# Altium footprint library Footprints.PcbLib: 22 footprints (part 1 of 2)
Each footprint in its own frame and in the unit in brackets; x right, y up, seen from the top. Pads: shape width x height; smd on the part's side, far side on the other; paste and mask are expansions set on the pad; w line width, h text height; cw(c..) or ccw(c..) is an arc to the next point about the centre after c.
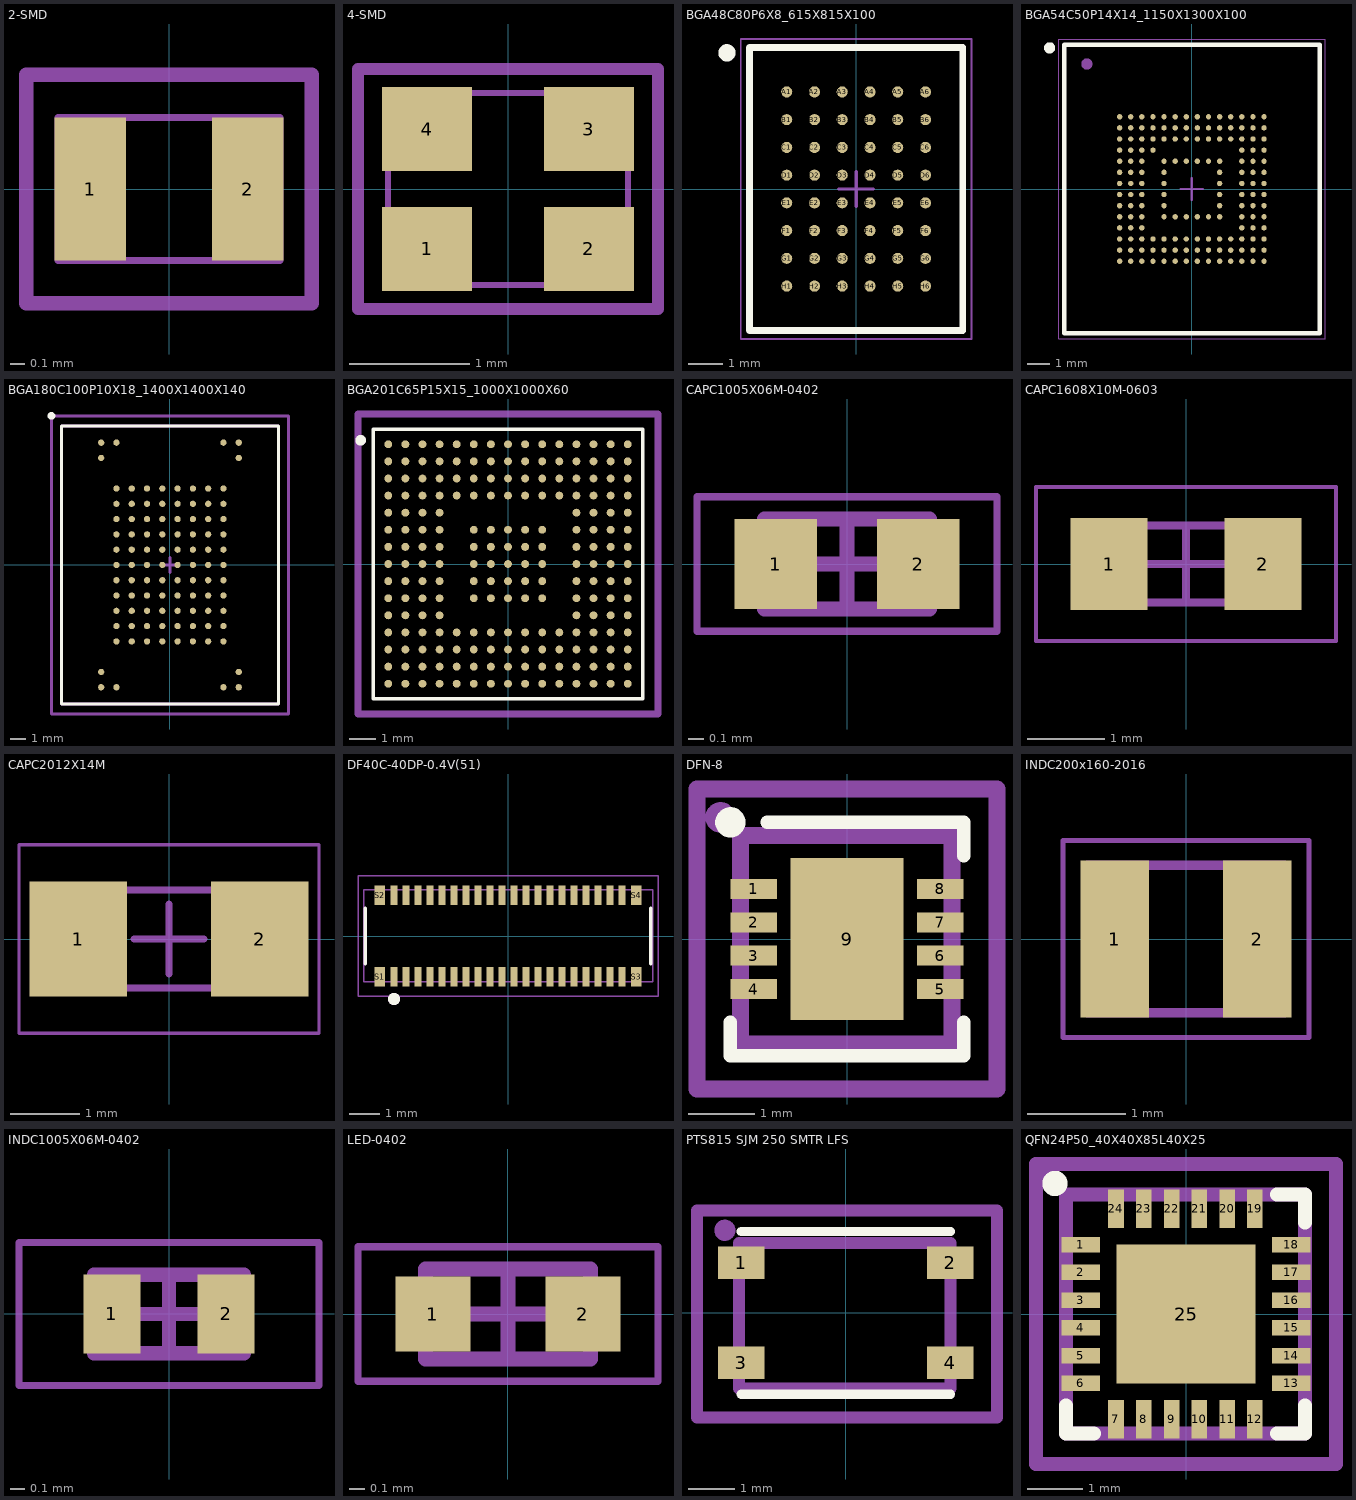
[diagram p0: the footprints below, top view; thin cyan lines are the x and y axes]

## 2-SMD [mm]
pads (2):
  rect 0.5x1 smd mask+0.1: 1(-0.55,0) 2(0.55,0)
Top Courtyard (Mech14):
  lines w0.1: -1,-0.8 -1,0.8 1,0.8 1,-0.8 -1,-0.8
Top Assembly:
  lines w0.05: -0.775,-0.5 -0.775,0.5 0.775,0.5 0.775,-0.5 -0.775,-0.5
  text ".Designator" at -0.775,-0.1 h0.4
3D body "ECS-.327-12.5-16-TR--3DModel-STEP-1.STEP": height 0.51, standoff 0.01, extent -0.8,-0.5 0.8,0.5

## 4-SMD [mm]
pads (4):
  rect 0.75x0.7 smd mask+0.05: 1(-0.675,-0.5) 2(0.675,-0.5) 3(0.675,0.5) 4(-0.675,0.5)
Top Courtyard (Mech14):
  lines w0.1: -1.25,-1 1.25,-1 1.25,1 -1.25,1 -1.25,-1
Top Assembly:
  lines w0.05: -1,-0.8 1,-0.8 1,0.8 -1,0.8 -1,-0.8
  text ".Designator" at -0.725,-0.1 h0.4
3D body "XRCGB25M000F3M00R0.step": height 0.71, standoff 0.01, extent -1,-0.8 1,0.8

## BGA48C80P6X8_615X815X100 [mm] "BGA, 48-Leads, Body 6.15x8.15mmx1.00mm, Pitch 0.80mm"
height 1
pads (48):
  round 0.32 smd: A1(-2,2.8) A2(-1.2,2.8) A3(-0.4,2.8) A4(0.4,2.8) A5(1.2,2.8) A6(2,2.8) B1(-2,2) B2(-1.2,2) B3(-0.4,2) B4(0.4,2) B5(1.2,2) B6(2,2) C1(-2,1.2) C2(-1.2,1.2) C3(-0.4,1.2) C4(0.4,1.2) C5(1.2,1.2) C6(2,1.2) D1(-2,0.4) D2(-1.2,0.4) D3(-0.4,0.4) D4(0.4,0.4) D5(1.2,0.4) D6(2,0.4) E1(-2,-0.4) E2(-1.2,-0.4) E3(-0.4,-0.4) E4(0.4,-0.4) E5(1.2,-0.4) E6(2,-0.4) F1(-2,-1.2) F2(-1.2,-1.2) F3(-0.4,-1.2) F4(0.4,-1.2) F5(1.2,-1.2) F6(2,-1.2) G1(-2,-2) G2(-1.2,-2) G3(-0.4,-2) G4(0.4,-2) G5(1.2,-2) G6(2,-2) H1(-2,-2.8) H2(-1.2,-2.8) H3(-0.4,-2.8) H4(0.4,-2.8) H5(1.2,-2.8) H6(2,-2.8)
Top Overlay:
  circle w0.25: c-3.725,3.925 r0.125
  lines w0.2: -3.075,-4.075 3.075,-4.075 3.075,4.075 -3.075,4.075 -3.075,-4.075
Top Courtyard (Mech14):
  lines w0.05: -3.325,-4.325 3.325,-4.325 3.325,4.325 -3.325,4.325 -3.325,-4.325
  lines w0.1: -0.5,0 0.5,0 ; 0,-0.5 0,0.5
Top Assembly:
  lines w0.1: -3.075,-4.075 3.075,-4.075 3.075,4.075 -3.075,4.075 -3.075,-4.075
  text ".Designator" at -2.25,-0.187 h1
3D body "BGA-48_VBK048_SPA.step": height 0.99, standoff 0, extent -3.073,-4.077 3.073,4.077

## BGA54C50P14X14_1150X1300X100 [mm] "BGA, 54-Leads, Body 11.50x13.00mmx1.00mm, Pitch 0.50mm"
height 1
pads (153):
  round 0.24 smd mask+0.036: A1(-3.25,3.25) A2(-2.75,3.25) A3(-2.25,3.25) A4(-1.75,3.25) A5(-1.25,3.25) A6(-0.75,3.25) A7(-0.25,3.25) A8(0.25,3.25) A9(0.75,3.25) A10(1.25,3.25) A11(1.75,3.25) A12(2.25,3.25) A13(2.75,3.25) A14(3.25,3.25) B1(-3.25,2.75) B2(-2.75,2.75) B3(-2.25,2.75) B4(-1.75,2.75) B5(-1.25,2.75) B6(-0.75,2.75) B7(-0.25,2.75) B8(0.25,2.75) B9(0.75,2.75) B10(1.25,2.75) B11(1.75,2.75) B12(2.25,2.75) B13(2.75,2.75) B14(3.25,2.75) C1(-3.25,2.25) C2(-2.75,2.25) C3(-2.25,2.25) C4(-1.75,2.25) C5(-1.25,2.25) C6(-0.75,2.25) C7(-0.25,2.25) C8(0.25,2.25) C9(0.75,2.25) C10(1.25,2.25) C11(1.75,2.25) C12(2.25,2.25) C13(2.75,2.25) C14(3.25,2.25) D1(-3.25,1.75) D2(-2.75,1.75) D3(-2.25,1.75) D4(-1.75,1.75) D12(2.25,1.75) D13(2.75,1.75) D14(3.25,1.75) E1(-3.25,1.25) E2(-2.75,1.25) E3(-2.25,1.25) E5(-1.25,1.25) E6(-0.75,1.25) E7(-0.25,1.25) E8(0.25,1.25) E9(0.75,1.25) E10(1.25,1.25) E12(2.25,1.25) E13(2.75,1.25) E14(3.25,1.25) F1(-3.25,0.75) F2(-2.75,0.75) F3(-2.25,0.75) F5(-1.25,0.75) F10(1.25,0.75) F12(2.25,0.75) F13(2.75,0.75) F14(3.25,0.75) G1(-3.25,0.25) G2(-2.75,0.25) G3(-2.25,0.25) G5(-1.25,0.25) G10(1.25,0.25) G12(2.25,0.25) G13(2.75,0.25) G14(3.25,0.25) H1(-3.25,-0.25) H2(-2.75,-0.25) H3(-2.25,-0.25) H5(-1.25,-0.25) H10(1.25,-0.25) H12(2.25,-0.25) H13(2.75,-0.25) H14(3.25,-0.25) J1(-3.25,-0.75) J2(-2.75,-0.75) J3(-2.25,-0.75) J5(-1.25,-0.75) J10(1.25,-0.75) J12(2.25,-0.75) J13(2.75,-0.75) J14(3.25,-0.75) K1(-3.25,-1.25) K2(-2.75,-1.25) K3(-2.25,-1.25) K5(-1.25,-1.25) K6(-0.75,-1.25) K7(-0.25,-1.25) K8(0.25,-1.25) K9(0.75,-1.25) K10(1.25,-1.25) K12(2.25,-1.25) K13(2.75,-1.25) K14(3.25,-1.25) L1(-3.25,-1.75) L2(-2.75,-1.75) L3(-2.25,-1.75) L12(2.25,-1.75) L13(2.75,-1.75) L14(3.25,-1.75) M1(-3.25,-2.25) M2(-2.75,-2.25) M3(-2.25,-2.25) M4(-1.75,-2.25) M5(-1.25,-2.25) M6(-0.75,-2.25) M7(-0.25,-2.25) M8(0.25,-2.25) M9(0.75,-2.25) M10(1.25,-2.25) M11(1.75,-2.25) M12(2.25,-2.25) M13(2.75,-2.25) M14(3.25,-2.25) N1(-3.25,-2.75) N2(-2.75,-2.75) N3(-2.25,-2.75) N4(-1.75,-2.75) N5(-1.25,-2.75) N6(-0.75,-2.75) N7(-0.25,-2.75) N8(0.25,-2.75) N9(0.75,-2.75) N10(1.25,-2.75) N11(1.75,-2.75) N12(2.25,-2.75) N13(2.75,-2.75) N14(3.25,-2.75) P1(-3.25,-3.25) P2(-2.75,-3.25) P3(-2.25,-3.25) P4(-1.75,-3.25) P5(-1.25,-3.25) P6(-0.75,-3.25) P7(-0.25,-3.25) P8(0.25,-3.25) P9(0.75,-3.25) P10(1.25,-3.25) P11(1.75,-3.25) P12(2.25,-3.25) P13(2.75,-3.25) P14(3.25,-3.25)
Top Overlay:
  circle w0.25: c-6.4,6.35 r0.125
  lines w0.2: -5.75,-6.5 -5.75,6.5 5.75,6.5 5.75,-6.5 -5.75,-6.5
Top Courtyard (Mech14):
  lines w0.05: -6,-6.75 -6,6.75 6,6.75 6,-6.75 -6,-6.75
  lines w0.1: -0.5,0 0.5,0 ; 0,-0.5 0,0.5
Top Assembly:
  circle w0.25: c-4.725,5.625 r0.125
  lines w0.1: -5.75,-6.5 -5.75,6.5 5.75,6.5 5.75,-6.5 -5.75,-6.5
  text ".Designator" at -3.525,-0.289 h1.52
3D body "BGA153_115X130X10_ALL.step": height 0.99, standoff 0, extent -5.804,-6.553 5.804,6.553

## BGA180C100P10X18_1400X1400X140 [mm] "BGA, 180-Leads, Body 14.00x14.00mmx1.40mm, Pitch 1.00mm"
height 1.4
pads (100):
  round 0.41 smd: A1(-4.5,8) A2(-3.5,8) A9(3.5,8) A10(4.5,8) B1(-4.5,7) B10(4.5,7) D2(-3.5,5) D3(-2.5,5) D4(-1.5,5) D5(-0.5,5) D6(0.5,5) D7(1.5,5) D8(2.5,5) D9(3.5,5) E2(-3.5,4) E3(-2.5,4) E4(-1.5,4) E5(-0.5,4) E6(0.5,4) E7(1.5,4) E8(2.5,4) E9(3.5,4) F2(-3.5,3) F3(-2.5,3) F4(-1.5,3) F5(-0.5,3) F6(0.5,3) F7(1.5,3) F8(2.5,3) F9(3.5,3) G2(-3.5,2) G3(-2.5,2) G4(-1.5,2) G5(-0.5,2) G6(0.5,2) G7(1.5,2) G8(2.5,2) G9(3.5,2) H2(-3.5,1) H3(-2.5,1) H4(-1.5,1) H5(-0.5,1) H6(0.5,1) H7(1.5,1) H8(2.5,1) H9(3.5,1) J2(-3.5,0) J3(-2.5,0) J4(-1.5,0) J5(-0.5,0) J6(0.5,0) J7(1.5,0) J8(2.5,0) J9(3.5,0) K2(-3.5,-1) K3(-2.5,-1) K4(-1.5,-1) K5(-0.5,-1) K6(0.5,-1) K7(1.5,-1) K8(2.5,-1) K9(3.5,-1) L2(-3.5,-2) L3(-2.5,-2) L4(-1.5,-2) L5(-0.5,-2) L6(0.5,-2) L7(1.5,-2) L8(2.5,-2) L9(3.5,-2) M2(-3.5,-3) M3(-2.5,-3) M4(-1.5,-3) M5(-0.5,-3) M6(0.5,-3) M7(1.5,-3) M8(2.5,-3) M9(3.5,-3) N2(-3.5,-4) N3(-2.5,-4) N4(-1.5,-4) N5(-0.5,-4) N6(0.5,-4) N7(1.5,-4) N8(2.5,-4) N9(3.5,-4) P2(-3.5,-5) P3(-2.5,-5) P4(-1.5,-5) P5(-0.5,-5) P6(0.5,-5) P7(1.5,-5) P8(2.5,-5) P9(3.5,-5) T1(-4.5,-7) T10(4.5,-7) U1(-4.5,-8) U2(-3.5,-8) U9(3.5,-8) U10(4.5,-8)
Top Overlay:
  circle w0.25: c-7.75,9.75 r0.125
  lines w0.2: -7.1,-9.1 -7.1,9.1 7.1,9.1 7.1,-9.1 -7.1,-9.1
Top Courtyard (Mech14):
  lines w0.2: -0.5,0 0.5,0 ; 0,-0.5 0,0.5 ; -7.75,-9.75 -7.75,9.75 7.75,9.75 7.75,-9.75 -7.75,-9.75
Top Assembly:
  lines w0.2: -7.1,-9.1 7.1,-9.1 7.1,9.1 -7.1,9.1 -7.1,-9.1
  text ".Designator" at -3.75,-0.4 h2
3D body "BGA_IS21ES08G-JQLI_ISI.step": height 1.4, standoff 0, extent -7.048,-9.055 7.048,9.055

## BGA201C65P15X15_1000X1000X60 [mm]
pads (201):
  round 0.3 smd mask+0.045: A1(-4.55,4.55) A2(-3.9,4.55) A3(-3.25,4.55) A4(-2.6,4.55) A5(-1.95,4.55) A6(-1.3,4.55) A7(-0.65,4.55) A8(0,4.55) A9(0.65,4.55) A10(1.3,4.55) A11(1.95,4.55) A12(2.6,4.55) A13(3.25,4.55) A14(3.9,4.55) A15(4.55,4.55) B1(-4.55,3.9) B2(-3.9,3.9) B3(-3.25,3.9) B4(-2.6,3.9) B5(-1.95,3.9) B6(-1.3,3.9) B7(-0.65,3.9) B8(0,3.9) B9(0.65,3.9) B10(1.3,3.9) B11(1.95,3.9) B12(2.6,3.9) B13(3.25,3.9) B14(3.9,3.9) B15(4.55,3.9) C1(-4.55,3.25) C2(-3.9,3.25) C3(-3.25,3.25) C4(-2.6,3.25) C5(-1.95,3.25) C6(-1.3,3.25) C7(-0.65,3.25) C8(0,3.25) C9(0.65,3.25) C10(1.3,3.25) C11(1.95,3.25) C12(2.6,3.25) C13(3.25,3.25) C14(3.9,3.25) C15(4.55,3.25) D1(-4.55,2.6) D2(-3.9,2.6) D3(-3.25,2.6) D4(-2.6,2.6) D5(-1.95,2.6) D6(-1.3,2.6) D7(-0.65,2.6) D8(0,2.6) D9(0.65,2.6) D10(1.3,2.6) D11(1.95,2.6) D12(2.6,2.6) D13(3.25,2.6) D14(3.9,2.6) D15(4.55,2.6) E1(-4.55,1.95) E2(-3.9,1.95) E3(-3.25,1.95) E4(-2.6,1.95) E12(2.6,1.95) E13(3.25,1.95) E14(3.9,1.95) E15(4.55,1.95) F1(-4.55,1.3) F2(-3.9,1.3) F3(-3.25,1.3) F4(-2.6,1.3) F6(-1.3,1.3) F7(-0.65,1.3) F8(0,1.3) F9(0.65,1.3) F10(1.3,1.3) F12(2.6,1.3) F13(3.25,1.3) F14(3.9,1.3) F15(4.55,1.3) G1(-4.55,0.65) G2(-3.9,0.65) G3(-3.25,0.65) G4(-2.6,0.65) G6(-1.3,0.65) G7(-0.65,0.65) G8(0,0.65) G9(0.65,0.65) G10(1.3,0.65) G12(2.6,0.65) G13(3.25,0.65) G14(3.9,0.65) G15(4.55,0.65) H1(-4.55,0) H2(-3.9,0) H3(-3.25,0) H4(-2.6,0) H6(-1.3,0) H7(-0.65,0) H8(0,0) H9(0.65,0) H10(1.3,0) H12(2.6,0) H13(3.25,0) H14(3.9,0) H15(4.55,0) J1(-4.55,-0.65) J2(-3.9,-0.65) J3(-3.25,-0.65) J4(-2.6,-0.65) J6(-1.3,-0.65) J7(-0.65,-0.65) J8(0,-0.65) J9(0.65,-0.65) J10(1.3,-0.65) J12(2.6,-0.65) J13(3.25,-0.65) J14(3.9,-0.65) J15(4.55,-0.65) K1(-4.55,-1.3) K2(-3.9,-1.3) K3(-3.25,-1.3) K4(-2.6,-1.3) K6(-1.3,-1.3) K7(-0.65,-1.3) K8(0,-1.3) K9(0.65,-1.3) K10(1.3,-1.3) K12(2.6,-1.3) K13(3.25,-1.3) K14(3.9,-1.3) K15(4.55,-1.3) L1(-4.55,-1.95) L2(-3.9,-1.95) L3(-3.25,-1.95) L4(-2.6,-1.95) L12(2.6,-1.95) L13(3.25,-1.95) L14(3.9,-1.95) L15(4.55,-1.95) M1(-4.55,-2.6) M2(-3.9,-2.6) M3(-3.25,-2.6) M4(-2.6,-2.6) M5(-1.95,-2.6) M6(-1.3,-2.6) M7(-0.65,-2.6) M8(0,-2.6) M9(0.65,-2.6) M10(1.3,-2.6) M11(1.95,-2.6) M12(2.6,-2.6) M13(3.25,-2.6) M14(3.9,-2.6) M15(4.55,-2.6) N1(-4.55,-3.25) N2(-3.9,-3.25) N3(-3.25,-3.25) N4(-2.6,-3.25) N5(-1.95,-3.25) N6(-1.3,-3.25) N7(-0.65,-3.25) N8(0,-3.25) N9(0.65,-3.25) N10(1.3,-3.25) N11(1.95,-3.25) N12(2.6,-3.25) N13(3.25,-3.25) N14(3.9,-3.25) N15(4.55,-3.25) P1(-4.55,-3.9) P2(-3.9,-3.9) P3(-3.25,-3.9) P4(-2.6,-3.9) P5(-1.95,-3.9) P6(-1.3,-3.9) P7(-0.65,-3.9) P8(0,-3.9) P9(0.65,-3.9) P10(1.3,-3.9) P11(1.95,-3.9) P12(2.6,-3.9) P13(3.25,-3.9) P14(3.9,-3.9) P15(4.55,-3.9) R1(-4.55,-4.55) R2(-3.9,-4.55) R3(-3.25,-4.55) R4(-2.6,-4.55) R5(-1.95,-4.55) R6(-1.3,-4.55) R7(-0.65,-4.55) R8(0,-4.55) R9(0.65,-4.55) R10(1.3,-4.55) R11(1.95,-4.55) R12(2.6,-4.55) R13(3.25,-4.55) R14(3.9,-4.55) R15(4.55,-4.55)
Top Overlay:
  circle w0.2: c-5.6,4.7 r0.1
  lines w0.127: -5.125,-5.125 -5.125,5.125 5.125,5.125 5.125,-5.125 -5.125,-5.125
Top Courtyard (Mech14):
  lines w0.254: -5.7,-5.7 5.7,-5.7 5.7,5.7 -5.7,5.7 -5.7,-5.7
Top Assembly:
  circle w0.2: c-5.6,4.7 r0.1
  lines w0.05: -5.1,-5.1 -5.1,5.1 5.1,5.1 5.1,-5.1 -5.1,-5.1
  text ".Designator" at -3.7,-0.4 h2
3D body "step_temp.STEP": height 0.59, standoff -0.01, extent -5,-5 5,5
3D body: height 0.6, standoff 0.2, extent -4.1,3.7 -3.7,4.1

## CAPC1005X06M-0402 [mm] "Chip Capacitor, 2-Leads, Body 1.00x0.50mm, IPC Low Density"
height 0.6
pads (2):
  rect 0.55x0.6 smd: 1(-0.475,0) 2(0.475,0)
Top Courtyard (Mech14):
  lines w0.05: -1,-0.45 -1,0.45 1,0.45 1,-0.45 -1,-0.45
  lines w0.1: -0.3,0 0.3,0 ; 0,-0.3 0,0.3
Top Assembly:
  lines w0.1: -0.55,-0.3 -0.55,0.3 0.55,0.3 0.55,-0.3 -0.55,-0.3
  text ".Designator" at -0.775,-0.1 h0.4
3D body: height 0.6, standoff 0, extent -0.3,-0.3 0.3,0.3
3D body: height 0.6, standoff 0, extent -0.55,-0.3 -0.3,0.3
3D body: height 0.6, standoff 0, extent 0.3,-0.3 0.55,0.3

## CAPC1608X10M-0603 [mm] "Chip Capacitor, 2-Leads, Body 1.60x0.80mm, IPC Low Density"
height 1
pads (2):
  rect 1x1.2 smd: 1(-1,0) 2(1,0)
Top Courtyard (Mech14):
  lines w0.05: -1.95,-1 1.95,-1 1.95,1 -1.95,1 -1.95,-1
  lines w0.1: -0.5,0 0.5,0 ; 0,-0.5 0,0.5
Top Assembly:
  lines w0.1: -0.9,-0.5 0.9,-0.5 0.9,0.5 -0.9,0.5 -0.9,-0.5
  text ".Designator" at -0.775,-0.1 h0.4
3D body: height 1, standoff 0, extent 0.52,-0.5 0.9,0.5
3D body: height 1, standoff 0, extent -0.9,-0.5 -0.52,0.5
3D body: height 1, standoff 0, extent -0.52,-0.5 0.52,0.5

## CAPC2012X14M [mm] "Chip Capacitor, 2-Leads, Body 2.00x1.25mm, IPC Low Density"
height 1.4
pads (2):
  rect 1.4x1.65 smd: 1(-1.3,0) 2(1.3,0)
Top Courtyard (Mech14):
  lines w0.05: -2.15,-1.35 -2.15,1.35 2.15,1.35 2.15,-1.35 -2.15,-1.35
  lines w0.1: -0.5,0 0.5,0 ; 0,-0.5 0,0.5
Top Assembly:
  lines w0.1: -1.075,-0.7 -1.075,0.7 1.075,0.7 1.075,-0.7 -1.075,-0.7
  text ".Designator" at -0.775,-0.1 h0.4
3D body: height 1.4, standoff 0, extent -0.625,-0.7 0.625,0.7
3D body: height 1.4, standoff 0, extent -1.075,-0.7 -0.625,0.7
3D body: height 1.4, standoff 0, extent 0.625,-0.7 1.075,0.7

## DF40C-40DP-0.4V(51) [mm]
pads (44):
  rect 0.23x0.66 smd: 1(-3.8,-1.355) 2(-3.8,1.355) 3(-3.4,-1.355) 4(-3.4,1.355) 5(-3,-1.355) 6(-3,1.355) 7(-2.6,-1.355) 8(-2.6,1.355) 9(-2.2,-1.355) 10(-2.2,1.355) 11(-1.8,-1.355) 12(-1.8,1.355) 13(-1.4,-1.355) 14(-1.4,1.355) 15(-1,-1.355) 16(-1,1.355) 17(-0.6,-1.355) 18(-0.6,1.355) 19(-0.2,-1.355) 20(-0.2,1.355) 21(0.2,-1.355) 22(0.2,1.355) 23(0.6,-1.355) 24(0.6,1.355) 25(1,-1.355) 26(1,1.355) 27(1.4,-1.355) 28(1.4,1.355) 29(1.8,-1.355) 30(1.8,1.355) 31(2.2,-1.355) 32(2.2,1.355) 33(2.6,-1.355) 34(2.6,1.355) 35(3,-1.355) 36(3,1.355) 37(3.4,-1.355) 38(3.4,1.355) 39(3.8,-1.355) 40(3.8,1.355)
  rect 0.35x0.66 smd: S1(-4.275,-1.355) S2(-4.275,1.355) S3(4.275,-1.355) S4(4.275,1.355)
Top Overlay:
  circle w0.2: c-3.8,-2.1 r0.1
  lines w0.127: -4.76,-0.925 -4.76,0.925 ; 4.76,-0.925 4.76,0.925
Top Courtyard (Mech14):
  lines w0.05: -5,-2 -5,1.25 -5,2 5,2 5,-2 -5,-2
Top Assembly:
  circle w0.2: c-3.8,-2.1 r0.1
  lines w0.05: -4.8,-1.525 -4.8,1.55 4.825,1.55 4.825,-1.525 -4.8,-1.525
  text ".Designator" at -2.25,-0.062 h1
3D body "DF40C-40DP.stp": height 1.15, standoff 0.01, extent -4.76,-1.47 4.76,1.5

## DFN-8 [mm]
pads (9):
  rect 0.7x0.3 smd: 1(-1.4,0.75) 2(-1.4,0.25) 3(-1.4,-0.25) 4(-1.4,-0.75) 5(1.4,-0.75) 6(1.4,-0.25) 7(1.4,0.25) 8(1.4,0.75)
  rect 1.7x2.43 smd paste-2539.97: 9(0,0)
Top Overlay:
  circle w0.254: c-1.75,1.75 r0.1
  lines w0.2: -1.75,-1.25 -1.75,-1.75 1.75,-1.75 1.75,-1.25 ; -1.2,1.75 1.75,1.75 1.75,1.25
Top Paste:
  rectangle: 0.05,0.05 0.775,1.15
  region: -0.05,-0.05 -0.775,-0.05 -0.775,-1.15 -0.05,-1.15
  rectangle: 0.05,-1.15 0.775,-0.05
  region: -0.05,1.15 -0.775,1.15 -0.775,0.05 -0.05,0.05
Top Courtyard (Mech14):
  lines w0.254: -2.25,-2.25 -2.25,2.25 2.25,2.25 2.25,-2.25 -2.25,-2.25
Top Assembly:
  circle w0.254: c-1.9,1.825 r0.1
  lines w0.254: -1.6,-1.575 -1.6,1.55 1.575,1.55 1.575,-1.575 -1.6,-1.575
  text ".Designator" at -1.45,-0.175 h0.75
3D body "User Library-My-DFN-8-3x3-0_5.STEP": height 0.81, standoff 0.01, extent -1.56,-1.55 1.56,1.55

## INDC200x160-2016 [mm]
height 0.55
pads (2):
  rect 0.7x1.6 smd: 1(-0.725,0) 2(0.725,0)
Top Courtyard (Mech14):
  lines w0.05: -1.25,-1 -1.25,1 1.25,1 1.25,-1 -1.25,-1
Top Assembly:
  lines w0.1: -1,-0.75 -1,0.75 1,0.75 1,-0.75 -1,-0.75
  text ".Designator" at -0.675,-0.069 h0.3
3D body: height 1, standoff 0, extent -0.5,-0.8 0.5,0.8
3D body: height 1, standoff 0, extent -1,-0.8 -0.5,0.8
3D body: height 1, standoff 0, extent 0.5,-0.8 1,0.8

## INDC1005X06M-0402 [mm] "Chip Inductor, 2-Leads, Body 1.00x0.50mm, IPC Low Density"
height 0.55
pads (2):
  rect 0.4x0.55 smd: 1(-0.4,0) 2(0.4,0)
Top Courtyard (Mech14):
  lines w0.05: -1.05,-0.5 1.05,-0.5 1.05,0.5 -1.05,0.5 -1.05,-0.5
  lines w0.1: -0.275,0 0.275,0 ; 0,-0.275 0,0.275
Top Assembly:
  lines w0.1: -0.525,-0.275 0.525,-0.275 0.525,0.275 -0.525,0.275 -0.525,-0.275
  text ".Designator" at -0.775,-0.1 h0.4
3D body: height 0.55, standoff 0, extent 0.275,-0.275 0.525,0.275
3D body: height 0.55, standoff 0, extent -0.525,-0.275 -0.275,0.275
3D body: height 0.55, standoff 0, extent -0.275,-0.275 0.275,0.275

## LED-0402 [mm]
height 0.6
pads (2):
  rect 0.5x0.5 smd: 1(-0.5,0) 2(0.5,0)
Top Courtyard (Mech14):
  lines w0.05: -1,-0.45 1,-0.45 1,0.45 -1,0.45 -1,-0.45
  lines w0.1: -0.3,0 0.3,0 ; 0,-0.3 0,0.3
Top Assembly:
  lines w0.1: -0.55,-0.3 0.55,-0.3 0.55,0.3 -0.55,0.3 -0.55,-0.3
  text ".Designator" at -0.775,-0.1 h0.4
3D body "QBLP595.step": height 0.5, standoff 0, extent -0.521,-0.25 0.479,0.25

## PTS815 SJM 250 SMTR LFS [mm]
pads (4):
  rect 1x0.7 smd paste-2539.97: 1(-2.25,1.075) 2(2.25,1.075) 3(-2.25,-1.075) 4(2.25,-1.075)
Top Overlay:
  lines w0.2: -2.25,-1.75 2.25,-1.75 ; -2.25,1.75 2.25,1.75
Top Courtyard (Mech14):
  lines w0.254: -3.2,-2.25 -3.2,2.2 3.25,2.2 3.25,-2.25 -3.2,-2.25
Top Assembly:
  circle w0.254: c-2.6,1.775 r0.1
  lines w0.254: -2.3,-1.625 -2.3,1.5 2.25,1.5 2.25,-1.625 -2.3,-1.625
  text ".Designator" at -1.5,-0.25 h0.75
3D body "PTS815SJM250SMTRLFS.stp": height 2.51, standoff 0.01, extent -2.25,-1.6 2.25,1.6

## QFN24P50_40X40X85L40X25 [mm]
pads (25):
  rect 0.69x0.28 smd: 1(-1.895,1.25) 2(-1.895,0.75) 3(-1.895,0.25) 4(-1.895,-0.25) 5(-1.895,-0.75) 6(-1.895,-1.25) 13(1.895,-1.25) 14(1.895,-0.75) 15(1.895,-0.25) 16(1.895,0.25) 17(1.895,0.75) 18(1.895,1.25)
  rect 0.28x0.69 smd: 7(-1.26,-1.895) 8(-0.76,-1.895) 9(-0.26,-1.895) 10(0.24,-1.895) 11(0.74,-1.895) 12(1.24,-1.895) 19(1.24,1.895) 20(0.74,1.895) 21(0.24,1.895) 22(-0.26,1.895) 23(-0.76,1.895) 24(-1.26,1.895)
  rect 2.5x2.5 smd paste-2539.97: 25(0,0)
Top Overlay:
  circle w0.254: c-2.36,2.35 r0.1
  lines w0.254: -2.16,-1.65 -2.16,-2.15 -1.66,-2.15 ; 1.64,-2.15 2.14,-2.15 2.14,-1.65 ; 1.64,2.15 2.14,2.15 2.14,1.65
Top Paste:
  rectangle: 0.065,-1.15 1.165,-0.05
  region: -1.16,-0.05 -1.16,-1.15 -0.06,-1.15 -0.06,-0.05
  rectangle: -1.16,0.075 -0.06,1.175
  rectangle: 0.065,0.075 1.165,1.175
Top Courtyard (Mech14):
  lines w0.254: -2.7,-2.7 -2.7,2.7 2.7,2.7 2.7,-2.7 -2.7,-2.7
Top Assembly:
  circle w0.254: c-2.5,2.5 r0.1
  lines w0.254: -2.16,2.15 -2.16,-2.15 1.64,-2.15 2.14,-2.15 2.14,1.65 2.14,2.15 -2.085,2.15
  text ".Designator" at -1.86,-0.05 h1
3D body "LAN8720.STEP": height 0.9, standoff 0, extent -2.08,-2.07 2.06,2.07